# Altium footprint library WE WR_COM 692121030100.PcbLib: 1 footprints
Each footprint in its own frame and in the unit in brackets; x right, y up, seen from the top. Pads: shape width x height; smd on the part's side, far side on the other; paste and mask are expansions set on the pad; w line width, h text height; cw(c..) or ccw(c..) is an arc to the next point about the centre after c.
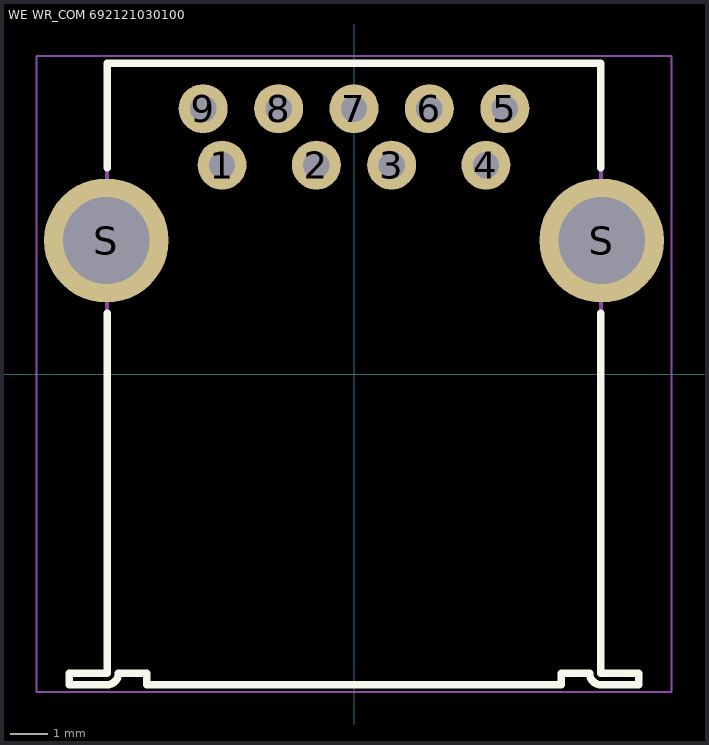
[diagram p0: the footprint, top view; thin cyan lines are the x and y axes]

## WE WR_COM 692121030100 [mm] "USB 3.0 Type A Horizontal THT"
height 6.99
pads (11):
  round 1.3 hole 0.7: 1(-3.5,5.54) 2(-1,5.54) 3(1,5.54) 4(3.5,5.54) 5(4,7.04) 6(2,7.04) 7(0,7.04) 8(-2,7.04) 9(-4,7.04)
  round 3.3 hole 2.3: S(-6.57,3.54) S(6.57,3.54)
Top Overlay:
  lines w0.2: -6.55,1.61 -6.55,-7.94 -7.55,-7.94 -7.55,-8.24 -6.56,-8.24 ccw(c-6.55,-7.94) -6.25,-7.94 -5.5,-7.94 -5.5,-8.24 5.5,-8.24 5.5,-7.94 6.25,-7.94 ccw(c6.55,-7.94) 6.56,-8.24 7.55,-8.24 7.55,-7.94 6.55,-7.94 6.55,1.61 ; -6.55,5.47 -6.55,8.24 6.55,8.24 6.55,5.47
Top Assembly:
  lines w0.1: -7.55,-8.24 -6.56,-8.24 ccw(c-6.55,-7.94) -6.25,-7.94 -5.5,-7.94 -5.5,-8.24 5.5,-8.24 5.5,-7.94 6.25,-7.94 ccw(c6.55,-7.94) 6.56,-8.24 7.55,-8.24 7.55,-7.94 6.55,-7.94 6.55,8.24 -6.55,8.24 -6.55,-7.94 -7.55,-7.94 -7.55,-8.24
Top Courtyard:
  lines w0.05: -8.42,-8.44 -8.42,8.44 8.42,8.44 8.42,-8.44 -8.42,-8.44
Top Designator:
  text ".Designator" at -7.498,-0.5 h1.5
3D body "692121030100.stp": height 8.07, standoff -3.16, extent -7.74,-8.24 7.74,8.31